# Altium footprint library shutdown_circuit.PcbLib: 38 footprints (part 1 of 3)
Each footprint in its own frame and in the unit in brackets; x right, y up, seen from the top. Pads: shape width x height; smd on the part's side, far side on the other; paste and mask are expansions set on the pad; w line width, h text height; cw(c..) or ccw(c..) is an arc to the next point about the centre after c.
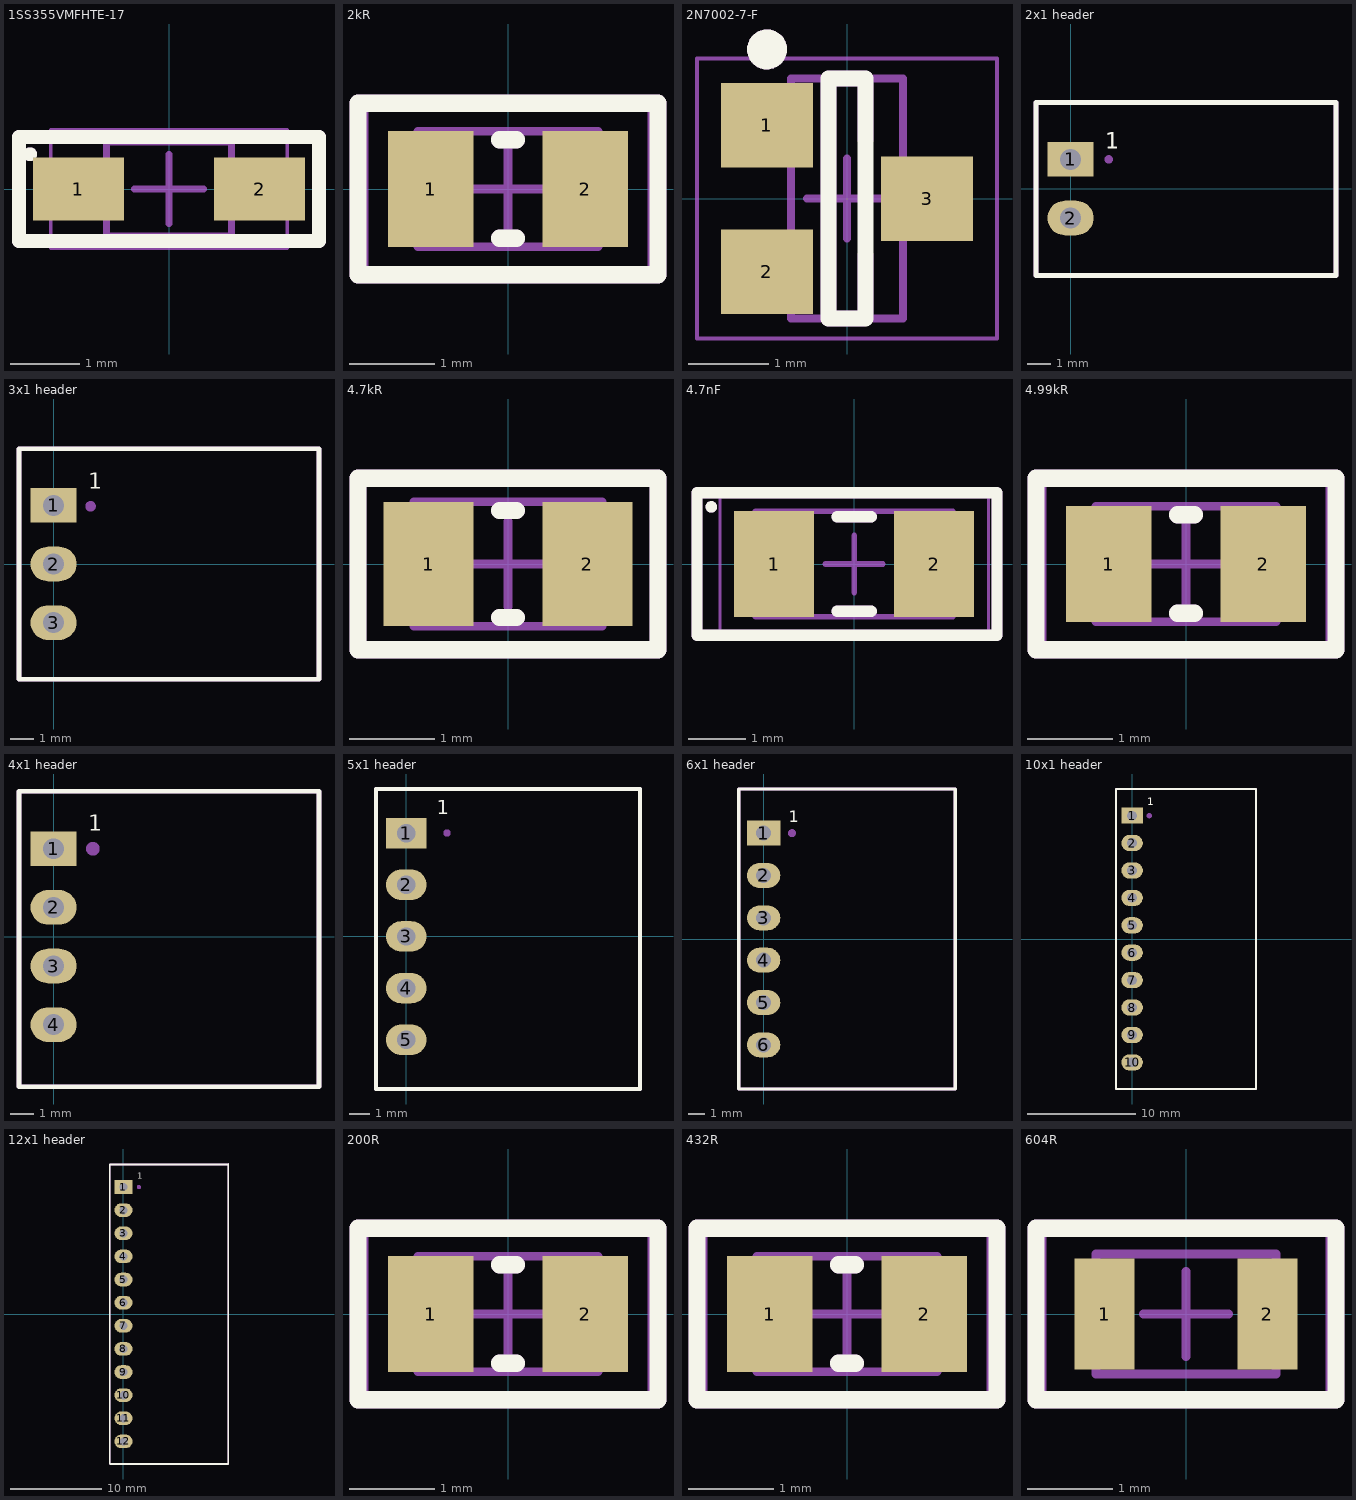
[diagram p0: the footprints below, top view; thin cyan lines are the x and y axes]

## 1SS355VMFHTE-17 [mm]
height 0.9
pads (2):
  rect 1.308x0.9 smd: 1(-1.304,0) 2(1.304,0)
Top Overlay:
  circle w0.1: c-2,0.5 r0.05
  lines w0.2: -2.159,-0.75 -2.159,0.75 -1.125,0.75 -0.188,0.75 0.188,0.75 1.125,0.75 2.159,0.75 2.159,-0.75 -2.159,-0.75
Assembly Top:
  lines w0.1: -0.9,-0.675 0.9,-0.675 0.9,0.675 -0.9,0.675 -0.9,-0.675
Courtyard Top:
  lines w0.05: -1.7,-0.85 1.7,-0.85 1.7,0.85 -1.7,0.85 -1.7,-0.85
  lines w0.1: -0.5,0 0.5,0 ; 0,-0.5 0,0.5
Mechanical 29 (Mech29):
  circle w0.1: c-2,0.5 r0.05
  lines w0.2: -2.159,-0.75 2.159,-0.75 2.159,0.75 1.125,0.75 0.188,0.75 -0.188,0.75 -1.125,0.75 -2.159,0.75 -2.159,-0.75
Mechanical 30:
  text "'.Designator'" at 0,0 h1.54
3D body "1SS355VMFHTE-17 .step": height 0.9, standoff 0, extent -1.25,-0.675 1.25,0.675

## 2kR [mm]
height 0.6
pads (2):
  rect 1x1.35 smd: 1(-0.9,0) 2(0.9,0)
Top Overlay:
  lines w0.2: -0.1,-0.575 0.1,-0.575 ; -0.1,0.575 0.1,0.575 ; -1.75,-1 -1.75,1 1.75,1 1.75,-1 -1.75,-1
Assembly Top:
  lines w0.1: -1.05,-0.675 1.05,-0.675 1.05,0.675 -1.05,0.675 -1.05,-0.675
Courtyard Top:
  lines w0.05: -1.65,-0.95 1.65,-0.95 1.65,0.95 -1.65,0.95 -1.65,-0.95
  lines w0.1: -0.5,0 0.5,0 ; 0,-0.5 0,0.5
Mechanical 29 (Mech29):
  lines w0.2: -0.1,-0.575 0.1,-0.575 ; -0.1,0.575 0.1,0.575 ; -1.75,-1 -1.75,1 1.75,1 1.75,-1 -1.75,-1
Mechanical 30:
  text "'.Designator'" at 0,0 h0.7
3D body: height 0.6, standoff 0, extent 0.7,-0.675 1.05,0.675
3D body: height 0.6, standoff 0, extent -1.05,-0.675 -0.7,0.675
3D body: height 0.6, standoff 0, extent -0.7,-0.675 0.7,0.675

## 2N7002-7-F [mm]
height 1.1
pads (3):
  rect 1.154x1.054 smd: 1(-1,0.915) 2(-1,-0.915) 3(1,0)
Top Overlay:
  circle w0.25: c-1,1.865 r0.125
  lines w0.2: -0.229,-1.5 -0.229,1.5 0.229,1.5 0.229,-1.5 -0.229,-1.5
Assembly Top:
  lines w0.1: -0.7,-1.5 -0.7,1.5 0.7,1.5 0.7,-1.5 -0.7,-1.5
Courtyard Top:
  lines w0.05: -1.875,-1.75 -1.875,1.75 1.875,1.75 1.875,-1.75 -1.875,-1.75
  lines w0.1: -0.5,0 0.5,0 ; 0,-0.5 0,0.5
Mechanical 29 (Mech29):
  circle w0.25: c-1,1.865 r0.125
  lines w0.2: 0.203,-1.5 -0.229,-1.5 -0.229,1.499 0.229,1.499 0.229,0.737 ; 0.229,-1.473 0.229,-0.711
Mechanical 30:
  text "'.Designator'" at 0,0 h1.54
3D body "SOT183P240X110-3N.step": height 1.1, standoff 0, extent -1.187,-1.5 1.187,1.5

## 2x1 header [mm]
pads (2):
  rect 2x1.5 hole 0.9: 1(0,1.27)
  oval 2x1.5 hole 0.9: 2(0,-1.27)
Top Overlay:
  lines w0.2: -1.5,-3.775 11.5,-3.775 11.5,3.725 -1.5,3.725 -1.5,-3.775 ; -1.5,-3.75 -1.5,3.75 11.5,3.75 11.5,-3.75 -1.5,-3.75
  text "1" at 1.5,1.75 h0.7
  text "1" at 1.5,1.725 h0.7
Mechanical 1:
  text "'.Designator'" at 0,0 h0.7
Mechanical 30:
  circle w0.254: c1.65,1.27 r0.054
  lines w0.2: -1.5,-3.775 -1.5,3.725 11.5,3.725 11.5,-3.775 -1.5,-3.775 ; -1.5,-3.75 11.5,-3.75 11.5,3.75 -1.5,3.75 -1.5,-3.75
  text "1" at 1.5,1.725 h0.7
  text "1" at 1.5,1.75 h0.7

## 3x1 header [mm]
pads (3):
  rect 2x1.5 hole 0.9: 1(0,2.54)
  oval 2x1.5 hole 0.9: 2(0,0) 3(0,-2.54)
Top Overlay:
  lines w0.2: -1.5,-5 11.5,-5 11.5,5 -1.5,5 -1.5,-5
  text "1" at 1.5,3.25 h0.7
Mechanical 1:
  text "'.Designator'" at 0,0 h0.7
Mechanical 30:
  circle w0.254: c1.6,2.5 r0.1
  lines w0.2: -1.5,-5 -1.5,5 11.5,5 11.5,-5 -1.5,-5
  text "1" at 1.5,3.25 h0.7

## 4.7kR [mm]
height 0.5
pads (2):
  rect 1.05x1.45 smd: 1(-0.925,0) 2(0.925,0)
Top Overlay:
  lines w0.2: -0.1,-0.625 0.1,-0.625 ; -0.1,0.625 0.1,0.625 ; -1.75,-1 -1.75,1 1.75,1 1.75,-1 -1.75,-1
Assembly Top:
  lines w0.1: -1.1,-0.725 1.1,-0.725 1.1,0.725 -1.1,0.725 -1.1,-0.725
Courtyard Top:
  lines w0.05: -1.7,-1 1.7,-1 1.7,1 -1.7,1 -1.7,-1
  lines w0.1: -0.5,0 0.5,0 ; 0,-0.5 0,0.5
Mechanical 29 (Mech29):
  lines w0.2: -0.1,-0.625 0.1,-0.625 ; -0.1,0.625 0.1,0.625 ; -1.75,-1 1.75,-1 1.75,1 -1.75,1 -1.75,-1
Mechanical 30:
  text "'.Designator'" at 0,0 h0.7
3D body "4.7kR.step": height 0.5, standoff 0, extent -1.1,-0.725 1.1,0.725

## 4.7nF [mm]
height 1.7
pads (2):
  rect 1.4x1.85 smd: 1(-1.4,0) 2(1.4,0)
Top Overlay:
  circle w0.1: c-2.5,1 r0.05
  lines w0.2: -0.3,-0.825 0.3,-0.825 ; -0.3,0.825 0.3,0.825 ; -2.75,-1.25 2.5,-1.25 2.5,1.25 -2.75,1.25 -2.75,-1.25
Assembly Top:
  lines w0.1: -1.725,-0.925 1.725,-0.925 1.725,0.925 -1.725,0.925 -1.725,-0.925
Courtyard Top:
  lines w0.05: -2.35,-1.2 2.35,-1.2 2.35,1.2 -2.35,1.2 -2.35,-1.2
  lines w0.1: -0.5,0 0.5,0 ; 0,-0.5 0,0.5
Mechanical 29 (Mech29):
  circle w0.1: c-2.5,1 r0.05
  lines w0.2: -0.3,-0.825 0.3,-0.825 ; -0.3,0.825 0.3,0.825 ; -2.75,-1.25 -2.75,1.25 2.5,1.25 2.5,-1.25 -2.75,-1.25
Mechanical 30:
  text "'.Designator'" at 0,0 h1.54
3D body: height 1.7, standoff 0, extent 1.215,-0.925 1.725,0.925
3D body: height 1.7, standoff 0, extent -1.725,-0.925 -1.215,0.925
3D body: height 1.7, standoff 0, extent -1.215,-0.925 1.215,0.925

## 4.99kR [mm]
height 0.6
pads (2):
  rect 1x1.35 smd: 1(-0.9,0) 2(0.9,0)
Top Overlay:
  lines w0.2: -0.1,-0.575 0.1,-0.575 ; -0.1,0.575 0.1,0.575 ; -1.75,-1 1.75,-1 1.75,1 -1.75,1 -1.75,-1
Assembly Top:
  lines w0.1: -1.05,-0.675 1.05,-0.675 1.05,0.675 -1.05,0.675 -1.05,-0.675
Courtyard Top:
  lines w0.05: -1.65,-0.95 1.65,-0.95 1.65,0.95 -1.65,0.95 -1.65,-0.95
  lines w0.1: -0.5,0 0.5,0 ; 0,-0.5 0,0.5
Mechanical 29 (Mech29):
  lines w0.2: -0.1,-0.575 0.1,-0.575 ; -0.1,0.575 0.1,0.575 ; -1.75,-1 1.75,-1 1.75,1 -1.75,1 -1.75,-1
Mechanical 30:
  text "'.Designator'" at 0,0 h0.7
3D body: height 0.6, standoff 0, extent 0.7,-0.675 1.05,0.675
3D body: height 0.6, standoff 0, extent -1.05,-0.675 -0.7,0.675
3D body: height 0.6, standoff 0, extent -0.7,-0.675 0.7,0.675

## 4x1 header [mm]
pads (4):
  rect 2x1.5 hole 0.9: 1(0,3.81)
  oval 2x1.5 hole 0.9: 2(0,1.27) 3(0,-1.27) 4(0,-3.81)
Top Overlay:
  lines w0.2: -1.5,-6.5 -1.5,6.3 11.5,6.3 11.5,-6.5 -1.5,-6.5
  text "1" at 1.5,4.6 h0.7
Mechanical 1:
  text "'.Designator'" at 0,0 h0.7
Mechanical 30:
  circle w0.3: c1.7,3.81 r0.149
  lines w0.2: -1.5,-6.5 11.5,-6.5 11.5,6.3 -1.5,6.3 -1.5,-6.5
  text "1" at 1.5,4.6 h0.7

## 5x1 header [mm]
pads (5):
  rect 2x1.5 hole 0.9: 1(0,5.08)
  oval 2x1.5 hole 0.9: 2(0,2.54) 3(0,0) 4(0,-2.54) 5(0,-5.08)
Top Overlay:
  lines w0.2: -1.5,-7.5 -1.5,7.25 11.5,7.25 11.5,-7.5 -1.5,-7.5
  text "1" at 1.5,6 h0.7
Mechanical 1:
  text "'.Designator'" at 0,0 h0.7
Mechanical 30:
  circle w0.254: c2,5.085 r0.054
  lines w0.2: -1.5,-7.5 11.5,-7.5 11.5,7.25 -1.5,7.25 -1.5,-7.5
  text "1" at 1.5,6 h0.7

## 6x1 header [mm]
pads (6):
  rect 2x1.5 hole 0.9: 1(0,6.35)
  oval 2x1.5 hole 0.9: 2(0,3.81) 3(0,1.27) 4(0,-1.27) 5(0,-3.81) 6(0,-6.35)
Top Overlay:
  lines w0.2: -1.5,-9 -1.5,9 11.5,9 11.5,-9 -1.5,-9
  text "1" at 1.5,7 h0.7
Mechanical 1:
  text "'.Designator'" at 0,0 h0.7
Mechanical 30:
  circle w0.254: c1.7,6.35 r0.112
  lines w0.2: -1.5,-9 11.5,-9 11.5,9 -1.5,9 -1.5,-9
  text "1" at 1.5,7 h0.7

## 10x1 header [mm]
pads (10):
  rect 2x1.5 hole 0.9: 1(0,11.43)
  oval 2x1.5 hole 0.9: 2(0,8.89) 3(0,6.35) 4(0,3.81) 5(0,1.27) 6(0,-1.27) 7(0,-3.81) 8(0,-6.35) 9(0,-8.89) 10(0,-11.43)
Top Overlay:
  lines w0.2: -1.5,-13.9 -1.5,0 -1.5,13.9 11.5,13.9 11.5,-13.9 -1.5,-13.9
  text "1" at 1.4,12.4 h0.7
Mechanical 1:
  text "'.Designator'" at 0,0 h0.7
Mechanical 30:
  circle w0.254: c1.6,11.43 r0.122
  lines w0.2: -1.5,-13.9 11.5,-13.9 11.5,13.9 -1.5,13.9 -1.5,0 -1.5,-13.9
  text "1" at 1.4,12.4 h0.7

## 12x1 header [mm]
pads (12):
  rect 2x1.5 hole 0.9: 1(0,13.97)
  oval 2x1.5 hole 0.9: 2(0,11.43) 3(0,8.89) 4(0,6.35) 5(0,3.81) 6(0,1.27) 7(0,-1.27) 8(0,-3.81) 9(0,-6.35) 10(0,-8.89) 11(0,-11.43) 12(0,-13.97)
Top Overlay:
  lines w0.2: -1.5,-16.4 -1.45,-16.45 11.5,-16.45 11.5,16.5 11.45,16.45 -1.5,16.45 -1.5,-16.4
  text "1" at 1.5,14.9 h0.7
Mechanical 1:
  text "'.Designator'" at 0,0 h0.7
Mechanical 30:
  circle w0.254: c1.7,13.97 r0.1
  lines w0.2: -1.5,-16.4 -1.5,16.45 11.45,16.45 11.5,16.5 11.5,-16.45 -1.45,-16.45 -1.5,-16.4
  text "1" at 1.5,14.9 h0.7

## 200R [mm]
height 0.6
pads (2):
  rect 1x1.35 smd: 1(-0.9,0) 2(0.9,0)
Top Overlay:
  lines w0.2: -0.1,-0.575 0.1,-0.575 ; -0.1,0.575 0.1,0.575 ; -1.75,-1 -1.75,1 1.75,1 1.75,-1 -1.75,-1
Assembly Top:
  lines w0.1: -1.05,-0.675 -1.05,0.675 1.05,0.675 1.05,-0.675 -1.05,-0.675
Courtyard Top:
  lines w0.05: -1.65,-0.95 -1.65,0.95 1.65,0.95 1.65,-0.95 -1.65,-0.95
  lines w0.1: -0.5,0 0.5,0 ; 0,-0.5 0,0.5
Mechanical 29 (Mech29):
  lines w0.2: -0.1,-0.575 0.1,-0.575 ; -0.1,0.575 0.1,0.575 ; -1.75,-1 -1.75,1 1.75,1 1.75,-1 -1.75,-1
Mechanical 30:
  text "'.Designator'" at 0,0 h0.7
3D body: height 0.6, standoff 0, extent -0.7,-0.675 0.7,0.675
3D body: height 0.6, standoff 0, extent -1.05,-0.675 -0.7,0.675
3D body: height 0.6, standoff 0, extent 0.7,-0.675 1.05,0.675

## 432R [mm]
height 0.6
pads (2):
  rect 1x1.35 smd: 1(-0.9,0) 2(0.9,0)
Top Overlay:
  lines w0.2: -0.1,-0.575 0.1,-0.575 ; -0.1,0.575 0.1,0.575 ; -1.75,-1 1.75,-1 1.75,1 -1.5,1 -1.75,1 -1.75,-1
Assembly Top:
  lines w0.1: -1.05,-0.675 -1.05,0.675 1.05,0.675 1.05,-0.675 -1.05,-0.675
Courtyard Top:
  lines w0.05: -1.65,-0.95 -1.65,0.95 1.65,0.95 1.65,-0.95 -1.65,-0.95
  lines w0.1: -0.5,0 0.5,0 ; 0,-0.5 0,0.5
Mechanical 29 (Mech29):
  lines w0.2: -0.1,-0.575 0.1,-0.575 ; -0.1,0.575 0.1,0.575 ; -1.75,-1 -1.75,1 -1.5,1 1.75,1 1.75,-1 -1.75,-1
Mechanical 30:
  text "'.Designator'" at 0,0 h0.7
3D body: height 0.6, standoff 0, extent -0.7,-0.675 0.7,0.675
3D body: height 0.6, standoff 0, extent -1.05,-0.675 -0.7,0.675
3D body: height 0.6, standoff 0, extent 0.7,-0.675 1.05,0.675

## 604R [mm]
height 0.55
pads (2):
  rect 0.7x1.3 smd: 1(-0.95,0) 2(0.95,0)
Top Overlay:
  lines w0.2: -1.75,-1 -1.75,1 -1.5,1 1.75,1 1.75,-1 -1.75,-1
Assembly Top:
  lines w0.1: -1.05,-0.7 1.05,-0.7 1.05,0.7 -1.05,0.7 -1.05,-0.7
Courtyard Top:
  lines w0.05: -1.65,-0.95 1.65,-0.95 1.65,0.95 -1.65,0.95 -1.65,-0.95
  lines w0.1: -0.5,0 0.5,0 ; 0,-0.5 0,0.5
Mechanical 29 (Mech29):
  lines w0.2: -1.75,-1 -1.75,1 -1.5,1 1.75,1 1.75,-1 -1.75,-1
Mechanical 30:
  text "'.Designator'" at 0,0 h0.7
3D body: height 0.55, standoff 0, extent 0.65,-0.7 1.05,0.7
3D body: height 0.55, standoff 0, extent -1.05,-0.7 -0.65,0.7
3D body: height 0.55, standoff 0, extent -0.65,-0.7 0.65,0.7